# Altium footprint library semicon.PCBLIB: 115 footprints (part 1 of 8)
Each footprint in its own frame and in the unit in brackets; x right, y up, seen from the top. Pads: shape width x height; smd on the part's side, far side on the other; paste and mask are expansions set on the pad; w line width, h text height; cw(c..) or ccw(c..) is an arc to the next point about the centre after c.
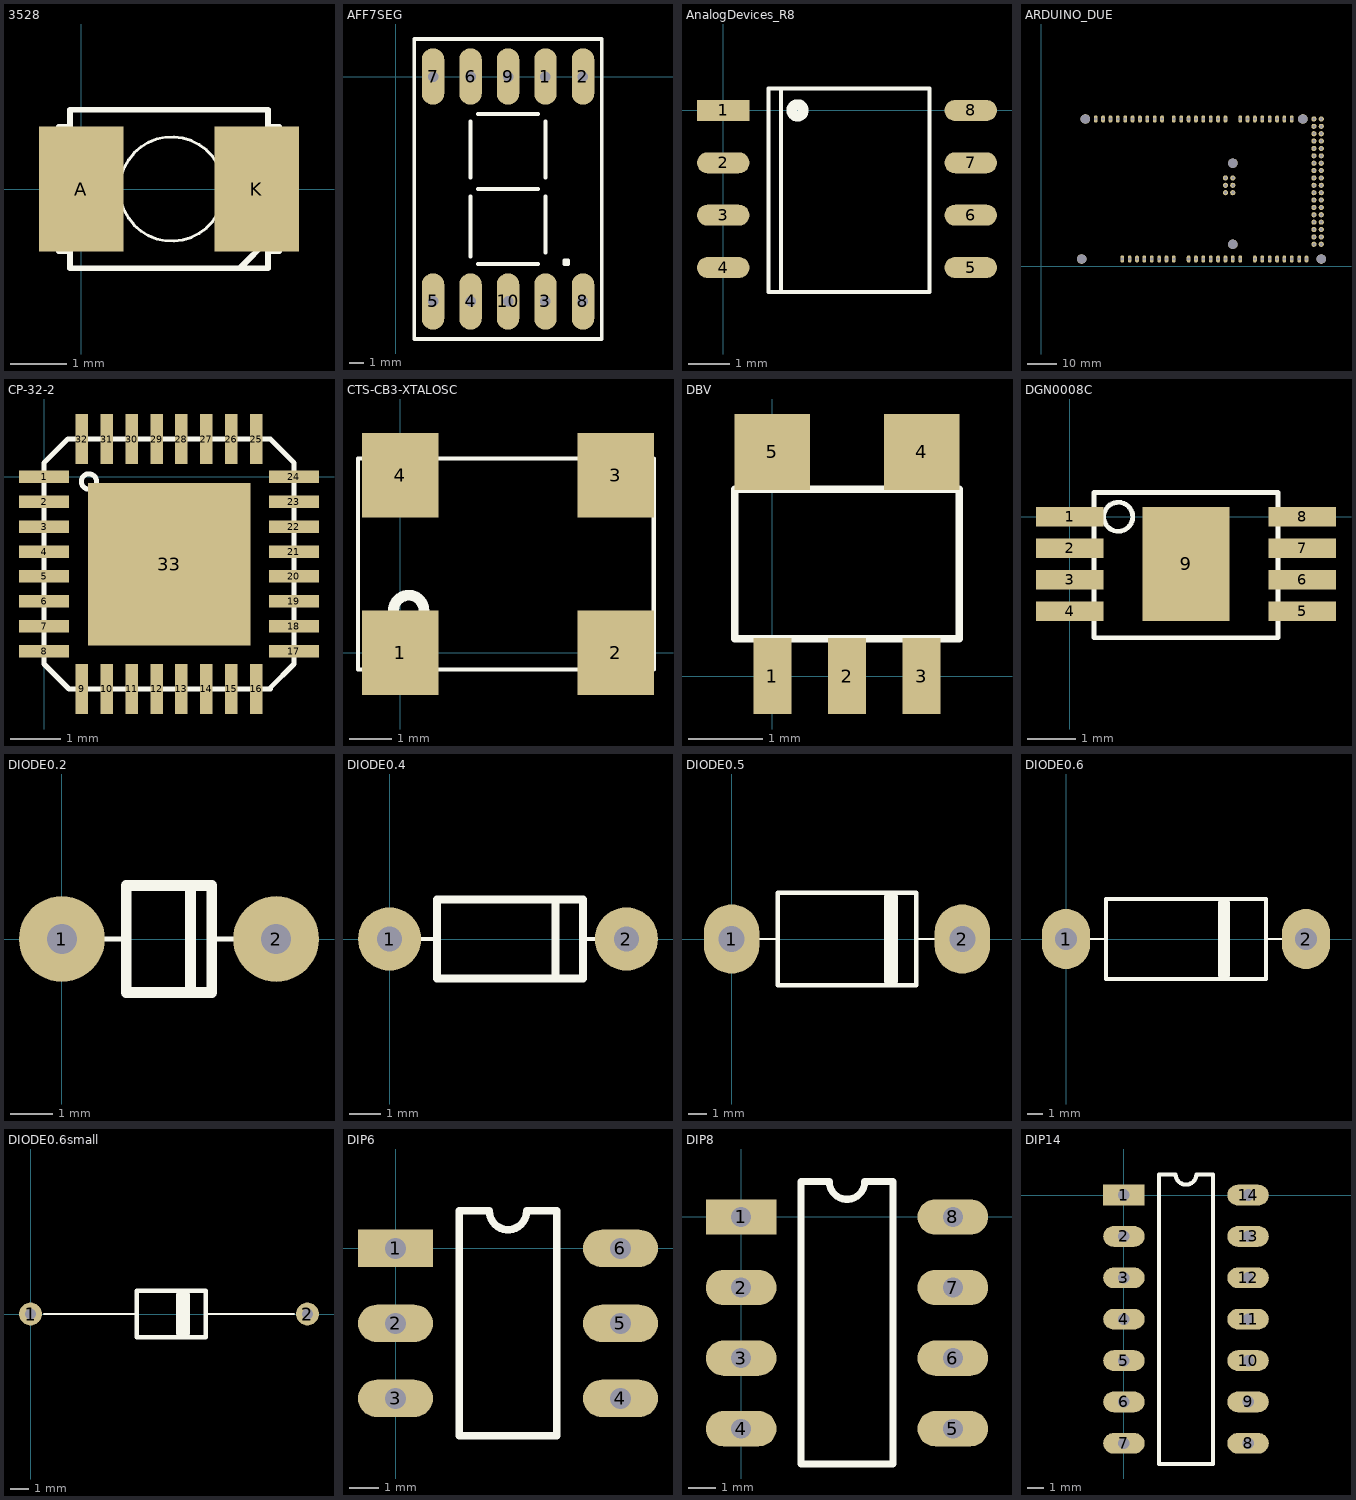
[diagram p0: the footprints below, top view; thin cyan lines are the x and y axes]

## 3528 [mm]
pads (2):
  rect 1.5x2.2 smd: A(0,0) K(3.1,0)
Top Overlay:
  circle w0.051: c1.6,0 r0.922
  lines w0.1: -0.2,-1.1 -0.4,-1.1 -0.4,1.1 -0.2,1.1 ; 2.8,-1.4 3.3,-0.9 ; 3.3,-1.1 3.5,-1.1 3.5,1.1 3.3,1.1 ; -0.2,-1.4 -0.2,1.4 3.3,1.4 3.3,-1.4 -0.2,-1.4

## AFF7SEG [mil]
pads (10):
  oval 60x150 hole 28: 1(400,0) 2(500,0) 3(400,-600) 4(200,-600) 5(100,-600) 6(200,0) 7(100,0) 8(500,-600) 9(300,0) 10(300,-600)
Top Overlay:
  lines w10: 200,-480 200,-320 ; 200,-270 200,-120 ; 220,-500 380,-500 ; 220,-300 380,-300 ; 220,-100 380,-100 ; 400,-470 400,-320 ; 400,-270 400,-120 ; 50,-700 50,100 550,100 550,-700 50,-700 ; 450,-500 460,-500 460,-490 450,-490 450,-500

## AnalogDevices_R8 [mil]
pads (8):
  rect 50x20 smd: 1(0,0)
  oval 50x20 smd: 2(0,-50) 3(0,-100) 4(0,-150) 5(236.22,-150) 6(236.22,-100) 7(236.22,-50) 8(236.22,0)
Top Overlay:
  circle w10: c70.87,0 r5.57
  lines w4: 55.12,-173.23 55.12,20.75 ; 85.81,20.75 196.85,20.75 196.85,-173.23 43.31,-173.23 43.31,20.75 94.49,20.75

## ARDUINO_DUE [mil]
pads (98):
  oval 50x100 hole 40: 1(740,2000) 2(840,2000) 3(940,2000) 4(1040,2000) 5(1140,2000) 6(1240,2000) 7(1340,2000) 8(1440,2000) 9(1540,2000) 10(1640,2000) 11(1800,2000) 12(1900,2000) 13(2000,2000) 14(2100,2000) 15(2200,2000) 16(2300,2000) 17(2400,2000) 18(2500,2000) 19(2700,2000) 20(2800,2000) 21(2900,2000) 22(3000,2000) 23(3100,2000) 24(3200,2000) 25(3300,2000) 26(3400,2000) 63(3600,100) 64(3500,100) 65(3400,100) 66(3300,100) 67(3200,100) 68(3100,100) 69(3000,100) 70(2900,100) 71(2700,100) 72(2600,100) 73(2500,100) 74(2400,100) 75(2300,100) 76(2200,100) 77(2100,100) 78(2000,100) 79(1800,100) 80(1700,100) 81(1600,100) 82(1500,100) 83(1400,100) 84(1300,100) 85(1200,100) 86(1100,100)
  round 70 hole 40: 27(3700,2000) 28(3800,2000) 29(3700,1900) 30(3800,1900) 31(3700,1800) 32(3800,1800) 33(3700,1700) 34(3800,1700) 35(3700,1600) 36(3800,1600) 37(3700,1500) 38(3800,1500) 39(3700,1400) 40(3800,1400) 41(3700,1300) 42(3800,1300) 43(3700,1200) 44(3800,1200) 45(3700,1100) 46(3800,1100) 47(3700,1000) 48(3800,1000) 49(3700,900) 50(3800,900) 51(3700,800) 52(3800,800) 53(3700,700) 54(3800,700) 55(3700,600) 56(3800,600) 57(3700,500) 58(3800,500) 59(3700,400) 60(3800,400) 61(3700,300) 62(3800,300) 87(2500,1200) 88(2600,1200) 89(2500,1100) 90(2600,1100) 91(2500,1000) 92(2600,1000)
  round 130 hole 126: ""(550,100) ""(600,2000) ""(2600,300) ""(2600,1400) ""(3550,2000) ""(3800,100)
Bottom Overlay:
  lines w3.94: 0,130 -70,130 -70,340 -70,490 0,490 ; 0,730 -30,730 -30,1010 0,1010 ; 0,1360 -30,1360 -30,1630 0,1630 ; 0,0 0,118.11 0,2100 3900,2100 3900,1590 4000,1490 4000,200 3900,100 3900,0 196.85,0 0,0

## CP-32-2 [mm]
pads (33):
  rect 1x0.25 smd: 1(0,0) 2(0,-0.5) 3(0,-1) 4(0,-1.5) 5(0,-2) 6(0,-2.5) 7(0,-3) 8(0,-3.5) 17(5,-3.5) 18(5,-3) 19(5,-2.5) 20(5,-2) 21(5,-1.5) 22(5,-1) 23(5,-0.5) 24(5,0)
  rect 0.25x1 smd: 9(0.75,-4.25) 10(1.25,-4.25) 11(1.75,-4.25) 12(2.25,-4.25) 13(2.75,-4.25) 14(3.25,-4.25) 15(3.75,-4.25) 16(4.25,-4.25) 25(4.25,0.75) 26(3.75,0.75) 27(3.25,0.75) 28(2.75,0.75) 29(2.25,0.75) 30(1.75,0.75) 31(1.25,0.75) 32(0.75,0.75)
  rect 3.25x3.25 smd: 33(2.5,-1.75)
Top Overlay:
  circle w0.1: c0.898,-0.1 r0.152
  lines w0.1: 0,-3.75 0,0.275 0.475,0.75 0.5,0.75 4.5,0.75 4.525,0.75 5,0.275 5,-3.75 4.525,-4.225 4.525,-4.25 0.525,-4.25 0.5,-4.25 0,-3.75

## CTS-CB3-XTALOSC [mm]
pads (4):
  rect 1.8x2 smd: 1(0,0) 2(5.1,0) 3(5.1,4.2) 4(0,4.2)
Top Overlay:
  circle w0.254: c0.2,1 r0.361
  lines w0.1: -1,-0.4 -1,4.6 6,4.6 6,-0.4 -1,-0.4

## DBV [mil]
pads (5):
  rect 20x40 smd: 1(0,0) 2(39.37,0) 3(78.74,0)
  rect 40x40 smd: 4(78.74,118.11) 5(0,118.11)
Top Overlay:
  lines w3.94: -19.68,19.68 -19.68,98.43 98.43,98.43 98.43,19.68 -19.68,19.68

## DGN0008C [mm]
pads (9):
  rect 1.4x0.4 smd: 1(0,0) 2(0,-0.65) 3(0,-1.3) 4(0,-1.95) 5(4.8,-1.95) 6(4.8,-1.3) 7(4.8,-0.65) 8(4.8,0)
  rect 1.8x2.35 smd: 9(2.4,-0.975)
Top Overlay:
  circle w0.1: c1,0 r0.3
  lines w0.1: 0.5,-2.5 4.3,-2.5 4.3,0.5 0.5,0.5 0.5,-2.5

## DIODE0.2 [mil]
pads (2):
  round 80 hole 28: 1(0,0) 2(200,0)
Top Overlay:
  lines w5: 10,0 60,0 ; 140,0 190,0
  lines w10: 120,-50 120,50 ; 60,-50 60,50 140,50 140,-50 60,-50

## DIODE0.4 [mil]
pads (2):
  round 80 hole 32: 1(0,0) 2(300,0)
Top Overlay:
  lines w5: 15,0 60,0 ; 245,0 280,0
  lines w10: 210,-50 210,50 ; 60,-50 60,50 245,50 245,0 245,-50 60,-50

## DIODE0.5 [mil]
pads (2):
  oval 120x150 hole 56: 1(0,0) 2(500,0)
Top Overlay:
  lines w5: 30,0 100,0 ; 400,0 500,0
  lines w10: 100,-100 100,100 400,100 400,0 400,-100 100,-100
  lines w30: 345,-90 345,90

## DIODE0.6 [mil]
pads (2):
  oval 120x150 hole 56: 1(0,0) 2(600,0)
Top Overlay:
  lines w5: 30,0 100,0 ; 500,0 600,0
  lines w10: 100,-100 100,100 500,100 500,0 500,-100 100,-100
  lines w30: 395,-90 395,90

## DIODE0.6small [mm]
pads (2):
  round 1.27 hole 0.6: 1(0,0) 2(15.24,0)
Top Overlay:
  lines w0.127: 0.762,0 5.842,0 ; 9.652,0 14.478,0
  lines w0.254: 5.842,-1.27 5.842,1.27 9.652,1.27 9.652,-1.27 5.842,-1.27
  lines w0.762: 8.382,-1.016 8.382,1.016

## DIP6 [mil]
pads (6):
  rect 100x50 hole 28: 1(0,0)
  oval 100x50 hole 28: 2(0,-100) 3(0,-200) 4(300,-200) 5(300,-100) 6(300,0)
Top Overlay:
  lines w10: 85,-250 85,50 125,50 ccw(c150,50) 175,50 215,50 215,-250 85,-250

## DIP8 [mil]
pads (8):
  rect 100x50 hole 28: 1(0,0)
  oval 100x50 hole 28: 2(0,-100) 3(0,-200) 4(0,-300) 5(300,-300) 6(300,-200) 7(300,-100) 8(300,0)
Top Overlay:
  lines w10: 85,-350 85,50 125,50 ccw(c150,50) 175,50 215,50 215,-350 85,-350

## DIP14 [mil]
pads (14):
  rect 100x50 hole 28: 1(0,0)
  oval 100x50 hole 28: 2(0,-100) 3(0,-200) 4(0,-300) 5(0,-400) 6(0,-500) 7(0,-600) 8(300,-600) 9(300,-500) 10(300,-400) 11(300,-300) 12(300,-200) 13(300,-100) 14(300,0)
Top Overlay:
  lines w10: 85,-650 85,50 125,50 ccw(c150,50) 175,50 215,50 215,-650 85,-650